# Altium footprint library RF.PcbLib: 1 footprints
Each footprint in its own frame and in the unit in brackets; x right, y up, seen from the top. Pads: shape width x height; smd on the part's side, far side on the other; paste and mask are expansions set on the pad; w line width, h text height; cw(c..) or ccw(c..) is an arc to the next point about the centre after c.
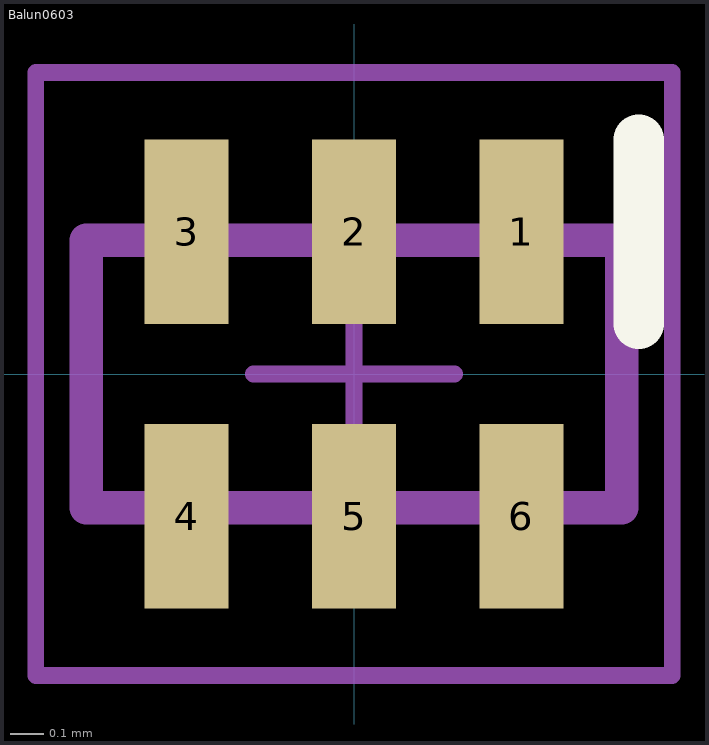
[diagram p0: the footprint, top view; thin cyan lines are the x and y axes]

## Balun0603 [mm]
pads (6):
  rect 0.25x0.55 smd: 1(0.5,0.425) 2(0,0.425) 3(-0.5,0.425) 4(-0.5,-0.425) 5(0,-0.425) 6(0.5,-0.425)
Top Overlay:
  lines w0.15: 0.85,0.15 0.85,0.7
Mechanical 14:
  lines w0.1: -0.8,-0.4 -0.8,0.4 0.8,0.4 0.8,-0.4 -0.8,-0.4
  text ".Designator" at -0.25,-0.15 h0.35
Mechanical 15:
  lines w0.05: -0.3,0 0.3,0 ; 0,-0.3 0,0.3 ; -0.95,-0.9 -0.95,0.9 0.95,0.9 0.95,-0.9 -0.95,-0.9
3D body "2450BM14A0002.STEP": height 0.6, standoff 0, extent -0.8,-0.4 0.8,0.4